# Altium schematic symbol library SRR4028-470Y.SchLib: 2 symbols
Pins are listed as number, name and electrical type; pins without a type are passive.

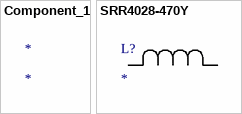
[diagram p0: symbols Component_1 to SRR4028-470Y]

## Component_1
designator *

## SRR4028-470Y
designator L?
No Description Available; Mfr_Name: Bourns Electronics
footprint IND_BOURNS_SRR4028
pins: 1, 2